# Altium integrated library Micron Memory Mobile LPDRAM.IntLib: 146 symbols (part 40 of 41)
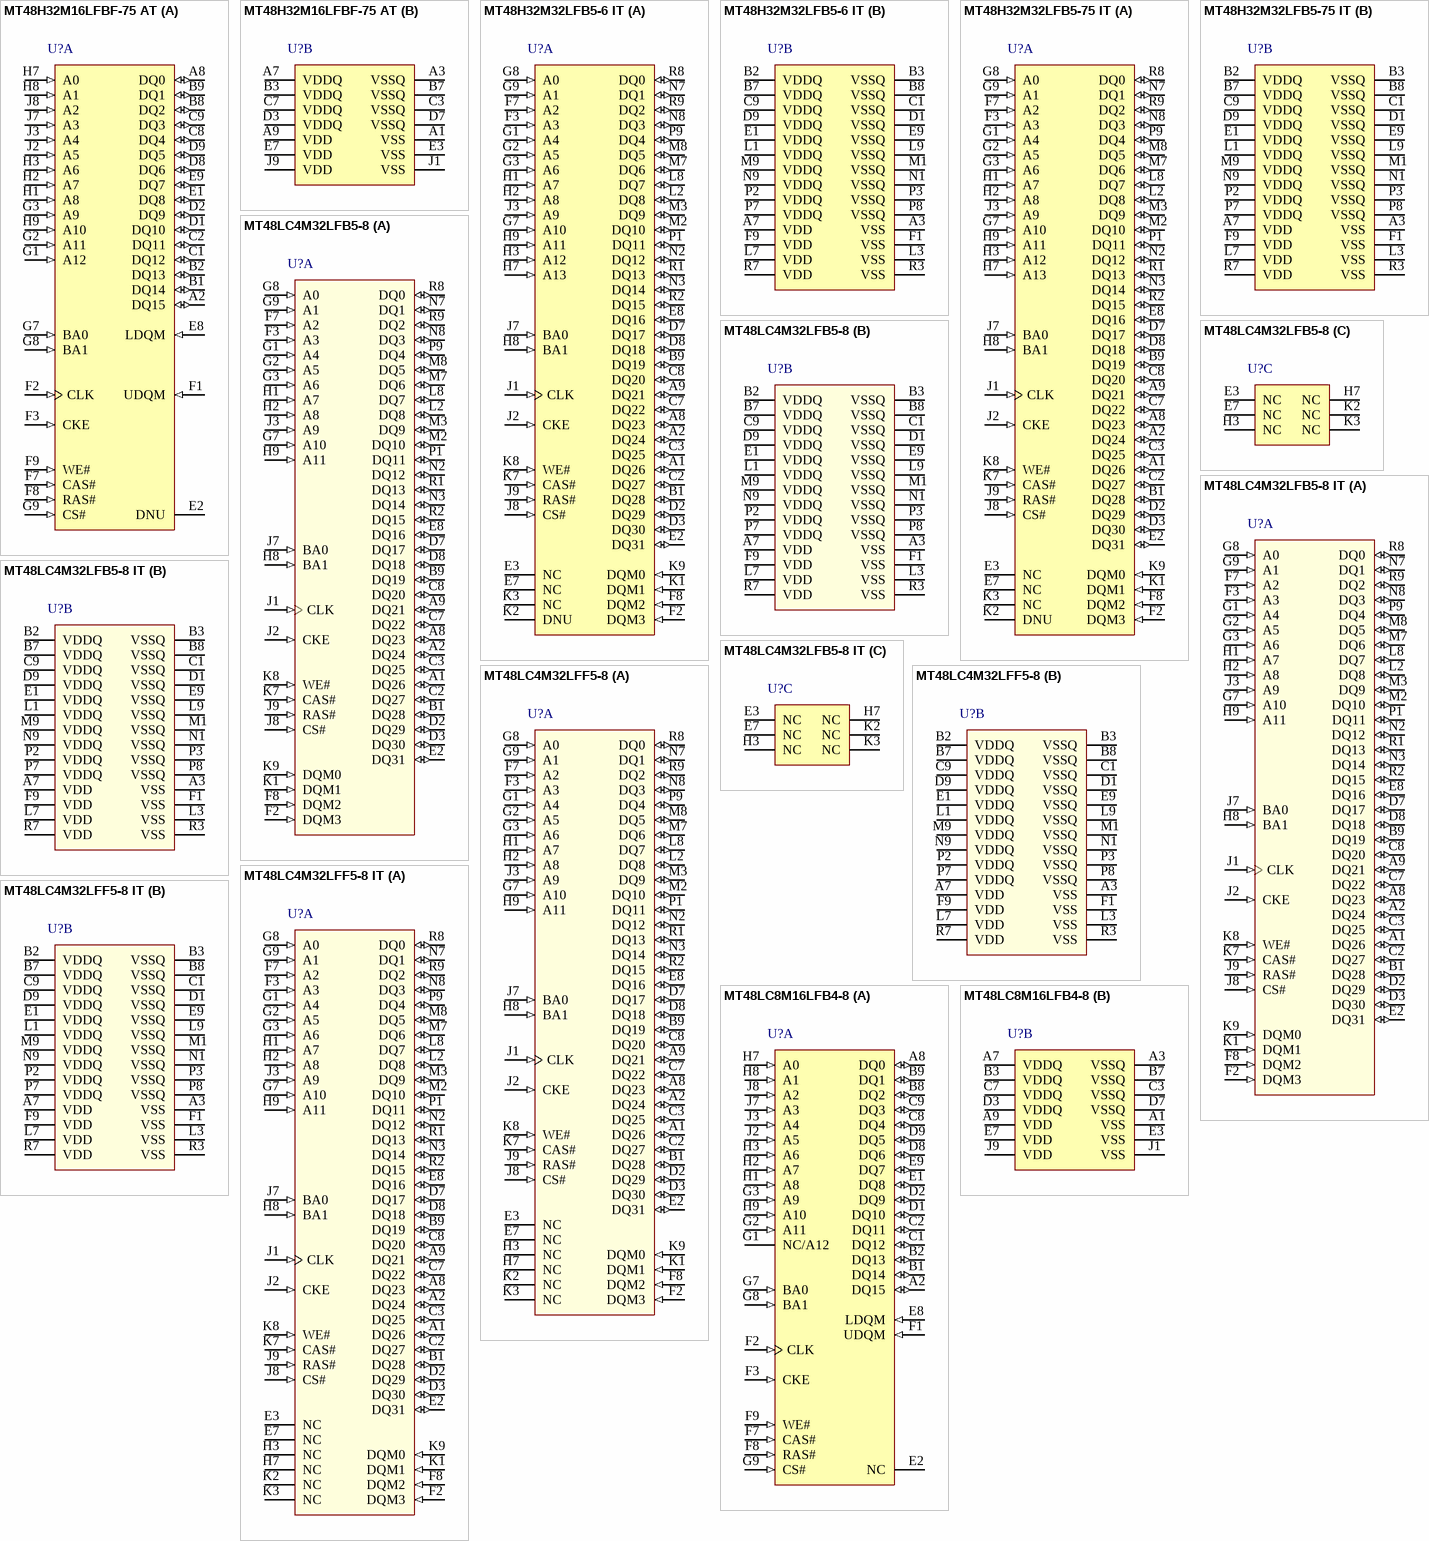
[diagram p63: symbols MT48H32M16LFBF-75 AT to MT48LC8M16LFB4-8]

## MT48LC4M32LFF5-8
designator U?
128Mb Mobile LPSDR SDRAM, 4Mb x 32, 8ns, 3.3V, 0 to 70 degC, 90-Ball VFBGA; Manufacturer: Micron; PartNumber: MT48LC4M32LFF5-8; Clock Rate: 125 MHz; Op. Temp.: 0C to +70C; DatasheetVersion: Rev. M; PackageVersion: Rev.G; PackageReference: MICT-F5-90; PackageDescription: 90-Ball Very Thin Profile Fine-Pitch Ball Grid Array, 13 x 8 mm, Pitch 0.8 mm; Cycle Time: 8ns; Data Rate: Mobile LPSDR; Density: 128Mb; Depth: 4Mb; Package: VFBGA; Part Status: Contact Factory; Pin Count: 90-ball; RoHS: 5/6; Technology: Mobile LPSDR; Voltage: 3.3V; Width: x32; Mounting Technology: Surface Mount; ComponentLink1Description: Manufacturer URL; ComponentLink1URL: http://www.micron.com/; ComponentLink2Description: Datasheet; ComponentLink2URL: http://www.micron.com/~/media/Documents/Products/Data%20Sheet/DRAM/128Mbx16x32Mobile.pdf; ComponentLink3Description: Package Specification; ComponentLink3URL: http://www.micron.com/~/media/Documents/Products/Data%20Sheet/DRAM/128Mbx16x32Mobile.pdf
footprint MICT-F5-90 (BGA, 90-Balls, Body 13x8mm, Pitch 0.8mm)
part A pins: A1 DQ26 (io) "Data input/output: Data bus.", A2 DQ24 (io) "Data input/output: Data bus.", A8 DQ23 (io) "Data input/output: Data bus.", A9 DQ21 (io) "Data input/output: Data bus.", B1 DQ28 (io) "Data input/output: Data bus.", B9 DQ19 (io) "Data input/output: Data bus.", C2 DQ27 (io) "Data input/output: Data bus.", C3 DQ25 (io) "Data input/output: Data bus.", C7 DQ22 (io) "Data input/output: Data bus.", C8 DQ20 (io) "Data input/output: Data bus.", D2 DQ29 (io) "Data input/output: Data bus.", D3 DQ30 (io) "Data input/output: Data bus.", D7 DQ17 (io) "Data input/output: Data bus.", D8 DQ18 (io) "Data input/output: Data bus.", E2 DQ31 (io) "Data input/output: Data bus.", E3 NC "No connect: These pins should be left unconnected. H3 is a no connect for this part, but may be used as A12 in future designs.", E7 NC "No connect: These pins should be left unconnected. H3 is a no connect for this part, but may be used as A12 in future designs.", E8 DQ16 (io) "Data input/output: Data bus.", F2 DQM3 (in) "Input/Output mask: DQM is sampled HIGH and is an input mask signal for write accesses and an output enable signal for read accesses. Input data is masked during a WRITE cycle. The output buffers are placed in a High-Z state (See Datasheet)", F3 A3 (in) "Address inputs: A0-A11 are sampled during the ACTIVE command (rowaddress A0-A11) and READ/WRITE command (column-address A0-A7; with A10 defining auto precharge) to select one location out of the memory array in the (See Datasheet)", F7 A2 (in) "Address inputs: A0-A11 are sampled during the ACTIVE command (rowaddress A0-A11) and READ/WRITE command (column-address A0-A7; with A10 defining auto precharge) to select one location out of the memory array in the (See Datasheet)", F8 DQM2 (in) "Input/Output mask: DQM is sampled HIGH and is an input mask signal for write accesses and an output enable signal for read accesses. Input data is masked during a WRITE cycle. The output buffers are placed in a High-Z state (See Datasheet)", G1 A4 (in) "Address inputs: A0-A11 are sampled during the ACTIVE command (rowaddress A0-A11) and READ/WRITE command (column-address A0-A7; with A10 defining auto precharge) to select one location out of the memory array in the (See Datasheet)", G2 A5 (in) "Address inputs: A0-A11 are sampled during the ACTIVE command (rowaddress A0-A11) and READ/WRITE command (column-address A0-A7; with A10 defining auto precharge) to select one location out of the memory array in the (See Datasheet)", G3 A6 (in) "Address inputs: A0-A11 are sampled during the ACTIVE command (rowaddress A0-A11) and READ/WRITE command (column-address A0-A7; with A10 defining auto precharge) to select one location out of the memory array in the (See Datasheet)", G7 A10 (in) "Address inputs: A0-A11 are sampled during the ACTIVE command (rowaddress A0-A11) and READ/WRITE command (column-address A0-A7; with A10 defining auto precharge) to select one location out of the memory array in the (See Datasheet)", G8 A0 (in) "Address inputs: A0-A11 are sampled during the ACTIVE command (rowaddress A0-A11) and READ/WRITE command (column-address A0-A7; with A10 defining auto precharge) to select one location out of the memory array in the (See Datasheet)", G9 A1 (in) "Address inputs: A0-A11 are sampled during the ACTIVE command (rowaddress A0-A11) and READ/WRITE command (column-address A0-A7; with A10 defining auto precharge) to select one location out of the memory array in the (See Datasheet)", H1 A7 (in) "Address inputs: A0-A11 are sampled during the ACTIVE command (rowaddress A0-A11) and READ/WRITE command (column-address A0-A7; with A10 defining auto precharge) to select one location out of the memory array in the (See Datasheet)", H2 A8 (in) "Address inputs: A0-A11 are sampled during the ACTIVE command (rowaddress A0-A11) and READ/WRITE command (column-address A0-A7; with A10 defining auto precharge) to select one location out of the memory array in the (See Datasheet)", H3 NC "No connect: These pins should be left unconnected. H3 is a no connect for this part, but may be used as A12 in future designs.", H7 NC "No connect: These pins should be left unconnected. H3 is a no connect for this part, but may be used as A12 in future designs.", H8 BA1 (in) "Bank address input(s): BA0 and BA1 define to which bank the ACTIVE, READ, WRITE, or PRECHARGE command is being applied. These pins also provide the op-code during a LOAD MODE REGISTER command.", H9 A11 (in) "Address inputs: A0-A11 are sampled during the ACTIVE command (rowaddress A0-A11) and READ/WRITE command (column-address A0-A7; with A10 defining auto precharge) to select one location out of the memory array in the (See Datasheet)", J1 CLK (in) "Clock: CLK is driven by the system clock. All SDRAM input signals are sampled on the positive edge of CLK. CLK also increments the internal burst counter and controls the output registers.", J2 CKE (in) "Clock enable: CKE activates (HIGH) and deactivates (LOW) the CLK signal. Deactivating the clock provides precharge power-down and SELF REFRESH operation (all banks idle), active power-down (row active in any bank), or CLOCK (See Datasheet)", J3 A9 (in) "Address inputs: A0-A11 are sampled during the ACTIVE command (rowaddress A0-A11) and READ/WRITE command (column-address A0-A7; with A10 defining auto precharge) to select one location out of the memory array in the (See Datasheet)", J7 BA0 (in) "Bank address input(s): BA0 and BA1 define to which bank the ACTIVE, READ, WRITE, or PRECHARGE command is being applied. These pins also provide the op-code during a LOAD MODE REGISTER command.", J8 CS# (in) "Chip select: CS# enables (registered LOW) and disables (registered HIGH) the command decoder. All commands are masked when CS# is registered HIGH, but READ/WRITE bursts already in progress will continue and DQM will retain (See Datasheet)", J9 RAS# (in) "Command inputs: RAS#, CAS#, and WE# (along with CS#) define the command being entered.", K1 DQM1 (in) "Input/Output mask: DQM is sampled HIGH and is an input mask signal for write accesses and an output enable signal for read accesses. Input data is masked during a WRITE cycle. The output buffers are placed in a High-Z state (See Datasheet)", K2 NC "No connect: These pins should be left unconnected. H3 is a no connect for this part, but may be used as A12 in future designs.", K3 NC "No connect: These pins should be left unconnected. H3 is a no connect for this part, but may be used as A12 in future designs.", K7 CAS# (in) "Command inputs: RAS#, CAS#, and WE# (along with CS#) define the command being entered.", K8 WE# (in) "Command inputs: RAS#, CAS#, and WE# (along with CS#) define the command being entered.", K9 DQM0 (in) "Input/Output mask: DQM is sampled HIGH and is an input mask signal for write accesses and an output enable signal for read accesses. Input data is masked during a WRITE cycle. The output buffers are placed in a High-Z state (See Datasheet)", L2 DQ8 (io) "Data input/output: Data bus.", L8 DQ7 (io) "Data input/output: Data bus.", M2 DQ10 (io) "Data input/output: Data bus.", M3 DQ9 (io) "Data input/output: Data bus.", M7 DQ6 (io) "Data input/output: Data bus.", M8 DQ5 (io) "Data input/output: Data bus.", N2 DQ12 (io) "Data input/output: Data bus.", N3 DQ14 (io) "Data input/output: Data bus.", N7 DQ1 (io) "Data input/output: Data bus.", N8 DQ3 (io) "Data input/output: Data bus.", P1 DQ11 (io) "Data input/output: Data bus.", P9 DQ4 (io) "Data input/output: Data bus.", R1 DQ13 (io) "Data input/output: Data bus.", R2 DQ15 (io) "Data input/output: Data bus.", R8 DQ0 (io) "Data input/output: Data bus.", R9 DQ2 (io) "Data input/output: Data bus."
part B pins: A3 VSS (power) "Ground.", A7 VDD (power) "Power supply: Voltage dependant on option.", B2 VDDQ (power) "DQ power: Isolated DQ power on the die to improve noise immunity.", B3 VSSQ (power) "DQ ground: Isolated DQ power on the die to improve noise immunity.", B7 VDDQ (power) "DQ power: Isolated DQ power on the die to improve noise immunity.", B8 VSSQ (power) "DQ ground: Isolated DQ power on the die to improve noise immunity.", C1 VSSQ (power) "DQ ground: Isolated DQ power on the die to improve noise immunity.", C9 VDDQ (power) "DQ power: Isolated DQ power on the die to improve noise immunity.", D1 VSSQ (power) "DQ ground: Isolated DQ power on the die to improve noise immunity.", D9 VDDQ (power) "DQ power: Isolated DQ power on the die to improve noise immunity.", E1 VDDQ (power) "DQ power: Isolated DQ power on the die to improve noise immunity.", E9 VSSQ (power) "DQ ground: Isolated DQ power on the die to improve noise immunity.", F1 VSS (power) "Ground.", F9 VDD (power) "Power supply: Voltage dependant on option.", L1 VDDQ (power) "DQ power: Isolated DQ power on the die to improve noise immunity.", L3 VSS (power) "Ground.", L7 VDD (power) "Power supply: Voltage dependant on option.", L9 VSSQ (power) "DQ ground: Isolated DQ power on the die to improve noise immunity.", M1 VSSQ (power) "DQ ground: Isolated DQ power on the die to improve noise immunity.", M9 VDDQ (power) "DQ power: Isolated DQ power on the die to improve noise immunity.", N1 VSSQ (power) "DQ ground: Isolated DQ power on the die to improve noise immunity.", N9 VDDQ (power) "DQ power: Isolated DQ power on the die to improve noise immunity.", P2 VDDQ (power) "DQ power: Isolated DQ power on the die to improve noise immunity.", P3 VSSQ (power) "DQ ground: Isolated DQ power on the die to improve noise immunity.", P7 VDDQ (power) "DQ power: Isolated DQ power on the die to improve noise immunity.", P8 VSSQ (power) "DQ ground: Isolated DQ power on the die to improve noise immunity.", R3 VSS (power) "Ground.", R7 VDD (power) "Power supply: Voltage dependant on option."

## MT48LC4M32LFF5-8 IT
designator U?
128Mb Mobile LPSDR SDRAM, 4Mb x 32, 8ns, 3.3V, -40 to 85 degC, 90-Ball VFBGA; Manufacturer: Micron; PartNumber: MT48LC4M32LFF5-8 IT; Clock Rate: 125 MHz; Op. Temp.: -40C to +85C; PackageVersion: Rev.G; PackageReference: MICT-F5-90; PackageDescription: 90-Ball Very Thin Profile Fine-Pitch Ball Grid Array, 13 x 8 mm, Pitch 0.8 mm; Cycle Time: 8ns; Density: 128Mb; Depth: 4Mb; Package: VFBGA; Part Status: Contact Factory; Pin Count: 90-ball; RoHS: 5/6; Technology: Mobile LPSDR; Voltage: 3.3V; Width: x32; Mounting Technology: Surface Mount; ComponentLink1Description: Manufacturer URL; ComponentLink1URL: http://www.micron.com/; ComponentLink2Description: Package Specification; ComponentLink2URL: http://www.micron.com/~/media/Documents/Products/Data%20Sheet/DRAM/128Mbx16x32Mobile.pdf
footprint MICT-F5-90 (BGA, 90-Balls, Body 13x8mm, Pitch 0.8mm)
part A pins: A1 DQ26 (io) "Data input/output: Data bus.", A2 DQ24 (io) "Data input/output: Data bus.", A8 DQ23 (io) "Data input/output: Data bus.", A9 DQ21 (io) "Data input/output: Data bus.", B1 DQ28 (io) "Data input/output: Data bus.", B9 DQ19 (io) "Data input/output: Data bus.", C2 DQ27 (io) "Data input/output: Data bus.", C3 DQ25 (io) "Data input/output: Data bus.", C7 DQ22 (io) "Data input/output: Data bus.", C8 DQ20 (io) "Data input/output: Data bus.", D2 DQ29 (io) "Data input/output: Data bus.", D3 DQ30 (io) "Data input/output: Data bus.", D7 DQ17 (io) "Data input/output: Data bus.", D8 DQ18 (io) "Data input/output: Data bus.", E2 DQ31 (io) "Data input/output: Data bus.", E3 NC "No connect: These pins should be left unconnected. H3 is a no connect for this part, but may be used as A12 in future designs.", E7 NC "No connect: These pins should be left unconnected. H3 is a no connect for this part, but may be used as A12 in future designs.", E8 DQ16 (io) "Data input/output: Data bus.", F2 DQM3 (in) "Input/Output mask: DQM is sampled HIGH and is an input mask signal for write accesses and an output enable signal for read accesses. Input data is masked during a WRITE cycle. The output buffers are placed in a High-Z state (See Datasheet)", F3 A3 (in) "Address inputs: A0-A11 are sampled during the ACTIVE command (rowaddress A0-A11) and READ/WRITE command (column-address A0-A7; with A10 defining auto precharge) to select one location out of the memory array in the (See Datasheet)", F7 A2 (in) "Address inputs: A0-A11 are sampled during the ACTIVE command (rowaddress A0-A11) and READ/WRITE command (column-address A0-A7; with A10 defining auto precharge) to select one location out of the memory array in the (See Datasheet)", F8 DQM2 (in) "Input/Output mask: DQM is sampled HIGH and is an input mask signal for write accesses and an output enable signal for read accesses. Input data is masked during a WRITE cycle. The output buffers are placed in a High-Z state (See Datasheet)", G1 A4 (in) "Address inputs: A0-A11 are sampled during the ACTIVE command (rowaddress A0-A11) and READ/WRITE command (column-address A0-A7; with A10 defining auto precharge) to select one location out of the memory array in the (See Datasheet)", G2 A5 (in) "Address inputs: A0-A11 are sampled during the ACTIVE command (rowaddress A0-A11) and READ/WRITE command (column-address A0-A7; with A10 defining auto precharge) to select one location out of the memory array in the (See Datasheet)", G3 A6 (in) "Address inputs: A0-A11 are sampled during the ACTIVE command (rowaddress A0-A11) and READ/WRITE command (column-address A0-A7; with A10 defining auto precharge) to select one location out of the memory array in the (See Datasheet)", G7 A10 (in) "Address inputs: A0-A11 are sampled during the ACTIVE command (rowaddress A0-A11) and READ/WRITE command (column-address A0-A7; with A10 defining auto precharge) to select one location out of the memory array in the (See Datasheet)", G8 A0 (in) "Address inputs: A0-A11 are sampled during the ACTIVE command (rowaddress A0-A11) and READ/WRITE command (column-address A0-A7; with A10 defining auto precharge) to select one location out of the memory array in the (See Datasheet)", G9 A1 (in) "Address inputs: A0-A11 are sampled during the ACTIVE command (rowaddress A0-A11) and READ/WRITE command (column-address A0-A7; with A10 defining auto precharge) to select one location out of the memory array in the (See Datasheet)", H1 A7 (in) "Address inputs: A0-A11 are sampled during the ACTIVE command (rowaddress A0-A11) and READ/WRITE command (column-address A0-A7; with A10 defining auto precharge) to select one location out of the memory array in the (See Datasheet)", H2 A8 (in) "Address inputs: A0-A11 are sampled during the ACTIVE command (rowaddress A0-A11) and READ/WRITE command (column-address A0-A7; with A10 defining auto precharge) to select one location out of the memory array in the (See Datasheet)", H3 NC "No connect: These pins should be left unconnected. H3 is a no connect for this part, but may be used as A12 in future designs.", H7 NC "No connect: These pins should be left unconnected. H3 is a no connect for this part, but may be used as A12 in future designs.", H8 BA1 (in) "Bank address input(s): BA0 and BA1 define to which bank the ACTIVE, READ, WRITE, or PRECHARGE command is being applied. These pins also provide the op-code during a LOAD MODE REGISTER command.", H9 A11 (in) "Address inputs: A0-A11 are sampled during the ACTIVE command (rowaddress A0-A11) and READ/WRITE command (column-address A0-A7; with A10 defining auto precharge) to select one location out of the memory array in the (See Datasheet)", J1 CLK (in) "Clock: CLK is driven by the system clock. All SDRAM input signals are sampled on the positive edge of CLK. CLK also increments the internal burst counter and controls the output registers.", J2 CKE (in) "Clock enable: CKE activates (HIGH) and deactivates (LOW) the CLK signal. Deactivating the clock provides precharge power-down and SELF REFRESH operation (all banks idle), active power-down (row active in any bank), or CLOCK (See Datasheet)", J3 A9 (in) "Address inputs: A0-A11 are sampled during the ACTIVE command (rowaddress A0-A11) and READ/WRITE command (column-address A0-A7; with A10 defining auto precharge) to select one location out of the memory array in the (See Datasheet)", J7 BA0 (in) "Bank address input(s): BA0 and BA1 define to which bank the ACTIVE, READ, WRITE, or PRECHARGE command is being applied. These pins also provide the op-code during a LOAD MODE REGISTER command.", J8 CS# (in) "Chip select: CS# enables (registered LOW) and disables (registered HIGH) the command decoder. All commands are masked when CS# is registered HIGH, but READ/WRITE bursts already in progress will continue and DQM will retain (See Datasheet)", J9 RAS# (in) "Command inputs: RAS#, CAS#, and WE# (along with CS#) define the command being entered.", K1 DQM1 (in) "Input/Output mask: DQM is sampled HIGH and is an input mask signal for write accesses and an output enable signal for read accesses. Input data is masked during a WRITE cycle. The output buffers are placed in a High-Z state (See Datasheet)", K2 NC "No connect: These pins should be left unconnected. H3 is a no connect for this part, but may be used as A12 in future designs.", K3 NC "No connect: These pins should be left unconnected. H3 is a no connect for this part, but may be used as A12 in future designs.", K7 CAS# (in) "Command inputs: RAS#, CAS#, and WE# (along with CS#) define the command being entered.", K8 WE# (in) "Command inputs: RAS#, CAS#, and WE# (along with CS#) define the command being entered.", K9 DQM0 (in) "Input/Output mask: DQM is sampled HIGH and is an input mask signal for write accesses and an output enable signal for read accesses. Input data is masked during a WRITE cycle. The output buffers are placed in a High-Z state (See Datasheet)", L2 DQ8 (io) "Data input/output: Data bus.", L8 DQ7 (io) "Data input/output: Data bus.", M2 DQ10 (io) "Data input/output: Data bus.", M3 DQ9 (io) "Data input/output: Data bus.", M7 DQ6 (io) "Data input/output: Data bus.", M8 DQ5 (io) "Data input/output: Data bus.", N2 DQ12 (io) "Data input/output: Data bus.", N3 DQ14 (io) "Data input/output: Data bus.", N7 DQ1 (io) "Data input/output: Data bus.", N8 DQ3 (io) "Data input/output: Data bus.", P1 DQ11 (io) "Data input/output: Data bus.", P9 DQ4 (io) "Data input/output: Data bus.", R1 DQ13 (io) "Data input/output: Data bus.", R2 DQ15 (io) "Data input/output: Data bus.", R8 DQ0 (io) "Data input/output: Data bus.", R9 DQ2 (io) "Data input/output: Data bus."
part B pins: A3 VSS (power) "Ground.", A7 VDD (power) "Power supply: Voltage dependant on option.", B2 VDDQ (power) "DQ power: Isolated DQ power on the die to improve noise immunity.", B3 VSSQ (power) "DQ ground: Isolated DQ power on the die to improve noise immunity.", B7 VDDQ (power) "DQ power: Isolated DQ power on the die to improve noise immunity.", B8 VSSQ (power) "DQ ground: Isolated DQ power on the die to improve noise immunity.", C1 VSSQ (power) "DQ ground: Isolated DQ power on the die to improve noise immunity.", C9 VDDQ (power) "DQ power: Isolated DQ power on the die to improve noise immunity.", D1 VSSQ (power) "DQ ground: Isolated DQ power on the die to improve noise immunity.", D9 VDDQ (power) "DQ power: Isolated DQ power on the die to improve noise immunity.", E1 VDDQ (power) "DQ power: Isolated DQ power on the die to improve noise immunity.", E9 VSSQ (power) "DQ ground: Isolated DQ power on the die to improve noise immunity.", F1 VSS (power) "Ground.", F9 VDD (power) "Power supply: Voltage dependant on option.", L1 VDDQ (power) "DQ power: Isolated DQ power on the die to improve noise immunity.", L3 VSS (power) "Ground.", L7 VDD (power) "Power supply: Voltage dependant on option.", L9 VSSQ (power) "DQ ground: Isolated DQ power on the die to improve noise immunity.", M1 VSSQ (power) "DQ ground: Isolated DQ power on the die to improve noise immunity.", M9 VDDQ (power) "DQ power: Isolated DQ power on the die to improve noise immunity.", N1 VSSQ (power) "DQ ground: Isolated DQ power on the die to improve noise immunity.", N9 VDDQ (power) "DQ power: Isolated DQ power on the die to improve noise immunity.", P2 VDDQ (power) "DQ power: Isolated DQ power on the die to improve noise immunity.", P3 VSSQ (power) "DQ ground: Isolated DQ power on the die to improve noise immunity.", P7 VDDQ (power) "DQ power: Isolated DQ power on the die to improve noise immunity.", P8 VSSQ (power) "DQ ground: Isolated DQ power on the die to improve noise immunity.", R3 VSS (power) "Ground.", R7 VDD (power) "Power supply: Voltage dependant on option."

## MT48LC8M16LFB4-8
designator U?
128Mb Mobile LPSDR SDRAM, 8Mb x 16, 8ns, 3.3V, 0 to 70 degC, 54-Ball VFBGA, Pb-Free; Manufacturer: Micron; PartNumber: MT48LC8M16LFB4-8; Clock Rate: 125 MHz; Op. Temp.: 0C to +70C; DatasheetVersion: Rev. M; PackageVersion: Rev.Q; PackageReference: MICT-B4-54; PackageDescription: 54-Ball Very Thin Profile Fine-Pitch Ball Grid Array, 8x 8 mm, Pitch 0.8 mm; Cycle Time: 8ns; Data Rate: Mobile LPSDR; Density: 128Mb; Depth: 8Mb; Package: VFBGA; Part Status: Contact Factory; Pin Count: 54-ball; RoHS: Yes; Technology: Mobile LPSDR; Voltage: 3.3V; Width: x16; Mounting Technology: Surface Mount; ComponentLink1Description: Manufacturer URL; ComponentLink1URL: http://www.micron.com/; ComponentLink2Description: Datasheet; ComponentLink2URL: http://www.micron.com/~/media/Documents/Products/Data%20Sheet/DRAM/128Mbx16x32Mobile.pdf; ComponentLink3Description: Package Specification; ComponentLink3URL: http://www.micron.com/~/media/Documents/Products/Data%20Sheet/DRAM/128Mbx16x32Mobile.pdf
footprint MICT-B4-54 (BGA, 54-Balls, Body 8x8mm, Pitch 0.8mm)
part A pins: A2 DQ15 (io) "Data input/output: Data bus.", A8 DQ0 (io) "Data input/output: Data bus.", B1 DQ14 (io) "Data input/output: Data bus.", B2 DQ13 (io) "Data input/output: Data bus.", B8 DQ2 (io) "Data input/output: Data bus.", B9 DQ1 (io) "Data input/output: Data bus.", C1 DQ12 (io) "Data input/output: Data bus.", C2 DQ11 (io) "Data input/output: Data bus.", C8 DQ4 (io) "Data input/output: Data bus.", C9 DQ3 (io) "Data input/output: Data bus.", D1 DQ10 (io) "Data input/output: Data bus.", D2 DQ9 (io) "Data input/output: Data bus.", D8 DQ6 (io) "Data input/output: Data bus.", D9 DQ5 (io) "Data input/output: Data bus.", E1 DQ8 (io) "Data input/output: Data bus.", E2 NC "No connect: These pins should be left unconnected. G1 is a no connect for this part but may be used as A12 in future designs.", E8 LDQM (in) "Input/Output mask: DQM is sampled HIGH and is an input mask signal for write accesses and an output enable signal for read accesses. Input data is masked during a WRITE cycle. The output buffers are placed in a High-Z state (See Datasheet)", E9 DQ7 (io) "Data input/output: Data bus.", F1 UDQM (in) "Input/Output mask: DQM is sampled HIGH and is an input mask signal for write accesses and an output enable signal for read accesses. Input data is masked during a WRITE cycle. The output buffers are placed in a High-Z state (See Datasheet)", F2 CLK (in) "Clock: CLK is driven by the system clock. All SDRAM input signals are sampled on the positive edge of CLK. CLK also increments the internal burst counter and controls the output registers.", F3 CKE (in) "Clock enable: CKE activates (HIGH) and deactivates (LOW) the CLK signal. Deactivating the clock provides precharge power-down and SELF REFRESH operation (all banks idle), active power-down (row active in any bank), or CLOCK (See Datasheet)", F7 CAS# (in) "Command inputs: CAS#, RAS#, and WE# (along with CS#) define the command being entered.", F8 RAS# (in) "Command inputs: CAS#, RAS#, and WE# (along with CS#) define the command being entered.", F9 WE# (in) "Command inputs: CAS#, RAS#, and WE# (along with CS#) define the command being entered.", G1 NC/A12 "No connect: These pins should be left unconnected. G1 is a no connect for this part but may be used as A12 in future designs.Address inputs: A0-A11 are sampled during the ACTIVE command (rowaddress A0-A11) and READ/WRITE (See Datasheet)", G2 A11 (in) "Address inputs: A0-A11 are sampled during the ACTIVE command (rowaddress A0-A11) and READ/WRITE command (column-address A0-A8; with A10 defining auto precharge) to select one location out of the memory array in the (See Datasheet)", G3 A9 (in) "Address inputs: A0-A11 are sampled during the ACTIVE command (rowaddress A0-A11) and READ/WRITE command (column-address A0-A8; with A10 defining auto precharge) to select one location out of the memory array in the (See Datasheet)", G7 BA0 (in) "Bank address input(s): BA0 and BA1 define to which bank the ACTIVE, READ, WRITE, or PRECHARGE command is being applied. These pins also provide the op-code during a LOAD MODE REGISTER command.", G8 BA1 (in) "Bank address input(s): BA0 and BA1 define to which bank the ACTIVE, READ, WRITE, or PRECHARGE command is being applied. These pins also provide the op-code during a LOAD MODE REGISTER command.", G9 CS# (in) "Chip select: CS# enables (registered LOW) and disables (registered HIGH) the command decoder. All commands are masked when CS# is registered HIGH, but READ/WRITE bursts already in progress will continue and DQM will retain (See Datasheet)", H1 A8 (in) "Address inputs: A0-A11 are sampled during the ACTIVE command (rowaddress A0-A11) and READ/WRITE command (column-address A0-A8; with A10 defining auto precharge) to select one location out of the memory array in the (See Datasheet)", H2 A7 (in) "Address inputs: A0-A11 are sampled during the ACTIVE command (rowaddress A0-A11) and READ/WRITE command (column-address A0-A8; with A10 defining auto precharge) to select one location out of the memory array in the (See Datasheet)", H3 A6 (in) "Address inputs: A0-A11 are sampled during the ACTIVE command (rowaddress A0-A11) and READ/WRITE command (column-address A0-A8; with A10 defining auto precharge) to select one location out of the memory array in the (See Datasheet)", H7 A0 (in) "Address inputs: A0-A11 are sampled during the ACTIVE command (rowaddress A0-A11) and READ/WRITE command (column-address A0-A8; with A10 defining auto precharge) to select one location out of the memory array in the (See Datasheet)", H8 A1 (in) "Address inputs: A0-A11 are sampled during the ACTIVE command (rowaddress A0-A11) and READ/WRITE command (column-address A0-A8; with A10 defining auto precharge) to select one location out of the memory array in the (See Datasheet)", H9 A10 (in) "Address inputs: A0-A11 are sampled during the ACTIVE command (rowaddress A0-A11) and READ/WRITE command (column-address A0-A8; with A10 defining auto precharge) to select one location out of the memory array in the (See Datasheet)", J2 A5 (in) "Address inputs: A0-A11 are sampled during the ACTIVE command (rowaddress A0-A11) and READ/WRITE command (column-address A0-A8; with A10 defining auto precharge) to select one location out of the memory array in the (See Datasheet)", J3 A4 (in) "Address inputs: A0-A11 are sampled during the ACTIVE command (rowaddress A0-A11) and READ/WRITE command (column-address A0-A8; with A10 defining auto precharge) to select one location out of the memory array in the (See Datasheet)", J7 A3 (in) "Address inputs: A0-A11 are sampled during the ACTIVE command (rowaddress A0-A11) and READ/WRITE command (column-address A0-A8; with A10 defining auto precharge) to select one location out of the memory array in the (See Datasheet)", J8 A2 (in) "Address inputs: A0-A11 are sampled during the ACTIVE command (rowaddress A0-A11) and READ/WRITE command (column-address A0-A8; with A10 defining auto precharge) to select one location out of the memory array in the (See Datasheet)"
part B pins: A1 VSS (power) "Ground.", A3 VSSQ (power) "DQ ground: Isolated DQ power on the die to improve noise immunity.", A7 VDDQ (power) "DQ power: Isolated DQ power on the die to improve noise immunity.", A9 VDD (power) "Power supply: Voltage dependant on option.", B3 VDDQ (power) "DQ power: Isolated DQ power on the die to improve noise immunity.", B7 VSSQ (power) "DQ ground: Isolated DQ power on the die to improve noise immunity.", C3 VSSQ (power) "DQ ground: Isolated DQ power on the die to improve noise immunity.", C7 VDDQ (power) "DQ power: Isolated DQ power on the die to improve noise immunity.", D3 VDDQ (power) "DQ power: Isolated DQ power on the die to improve noise immunity.", D7 VSSQ (power) "DQ ground: Isolated DQ power on the die to improve noise immunity.", E3 VSS (power) "Ground.", E7 VDD (power) "Power supply: Voltage dependant on option.", J1 VSS (power) "Ground.", J9 VDD (power) "Power supply: Voltage dependant on option."

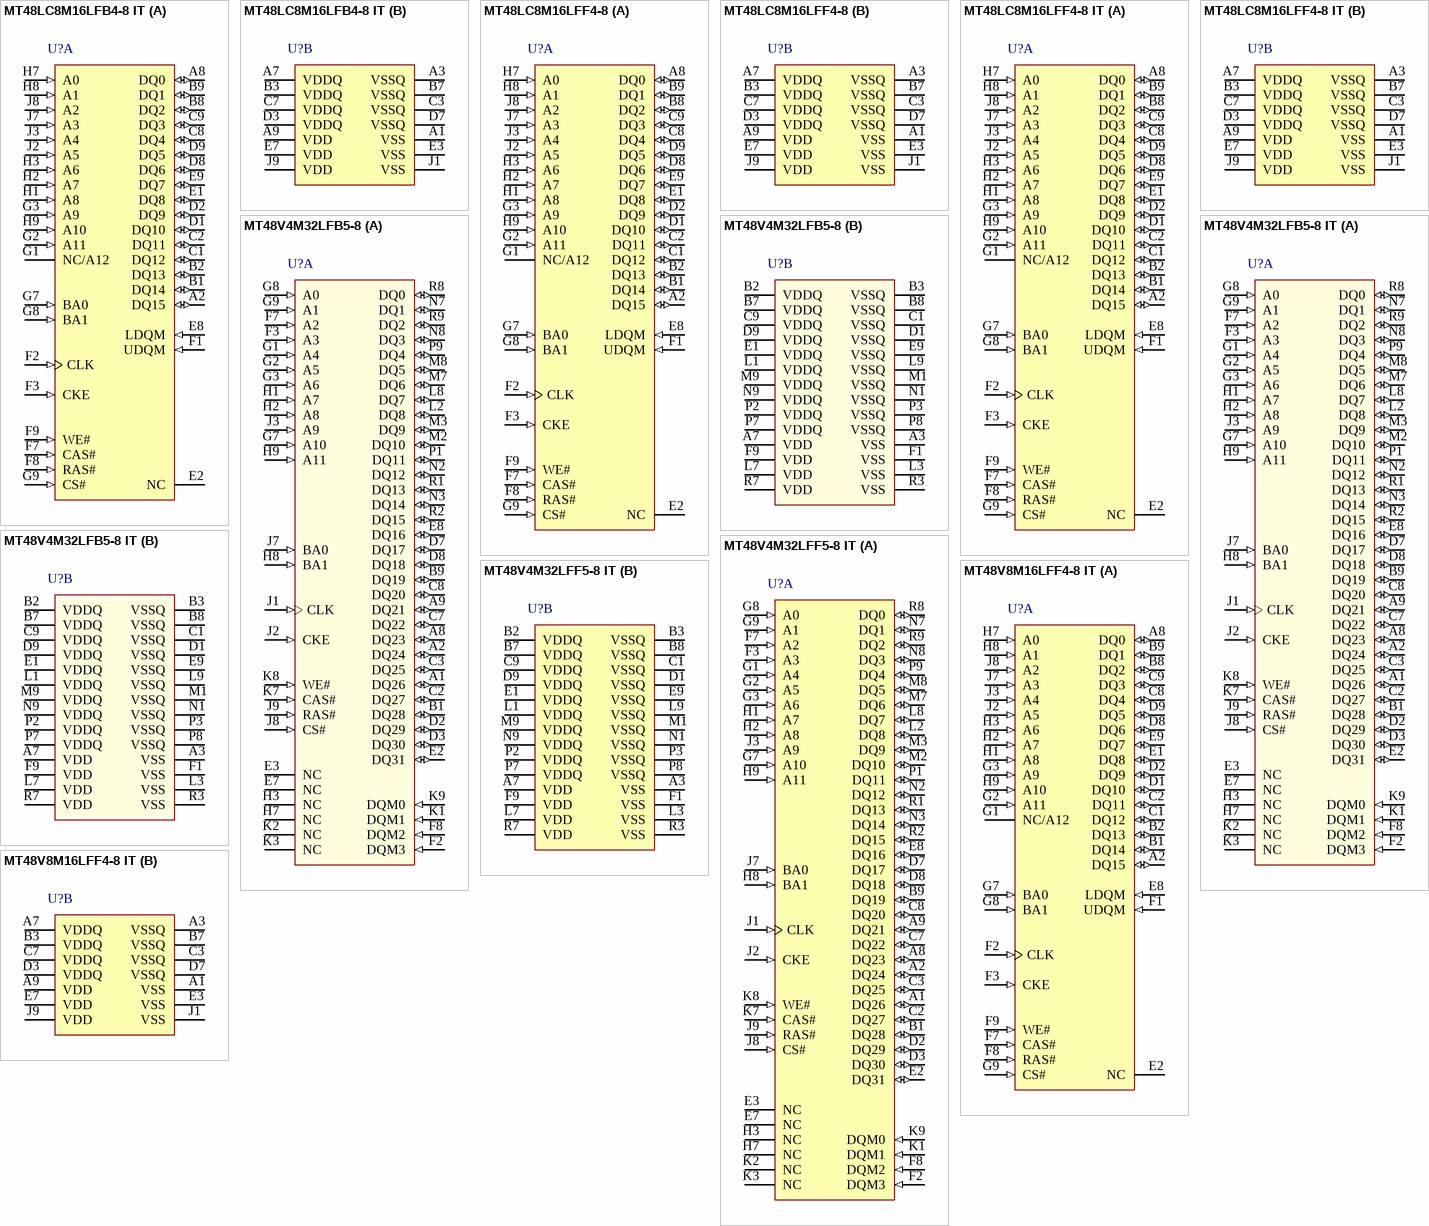
[diagram p24: symbols MT48LC8M16LFB4-8 IT to MT48V8M16LFF4-8 IT]

## MT48LC8M16LFB4-8 IT
designator U?
128Mb Mobile LPSDR SDRAM, 8Mb x 16, 8ns, 3.3V, -40 to 85 degC, 54-Ball VFBGA, Pb-Free; Manufacturer: Micron; PartNumber: MT48LC8M16LFB4-8 IT; Clock Rate: 125 MHz; Op. Temp.: -40C to +85C; DatasheetVersion: Rev. M; PackageVersion: Rev.Q; PackageReference: MICT-B4-54; PackageDescription: 54-Ball Very Thin Profile Fine-Pitch Ball Grid Array, 8x 8 mm, Pitch 0.8 mm; Cycle Time: 8ns; Data Rate: Mobile LPSDR; Density: 128Mb; Depth: 8Mb; Package: VFBGA; Part Status: Contact Factory; Pin Count: 54-ball; RoHS: Yes; Technology: Mobile LPSDR; Voltage: 3.3V; Width: x16; Mounting Technology: Surface Mount; ComponentLink1Description: Manufacturer URL; ComponentLink1URL: http://www.micron.com/; ComponentLink2Description: Datasheet; ComponentLink2URL: http://www.micron.com/~/media/Documents/Products/Data%20Sheet/DRAM/128Mbx16x32Mobile.pdf; ComponentLink3Description: Package Specification; ComponentLink3URL: http://www.micron.com/~/media/Documents/Products/Data%20Sheet/DRAM/128Mbx16x32Mobile.pdf
footprint MICT-B4-54 (BGA, 54-Balls, Body 8x8mm, Pitch 0.8mm)
part A pins: A2 DQ15 (io) "Data input/output: Data bus.", A8 DQ0 (io) "Data input/output: Data bus.", B1 DQ14 (io) "Data input/output: Data bus.", B2 DQ13 (io) "Data input/output: Data bus.", B8 DQ2 (io) "Data input/output: Data bus.", B9 DQ1 (io) "Data input/output: Data bus.", C1 DQ12 (io) "Data input/output: Data bus.", C2 DQ11 (io) "Data input/output: Data bus.", C8 DQ4 (io) "Data input/output: Data bus.", C9 DQ3 (io) "Data input/output: Data bus.", D1 DQ10 (io) "Data input/output: Data bus.", D2 DQ9 (io) "Data input/output: Data bus.", D8 DQ6 (io) "Data input/output: Data bus.", D9 DQ5 (io) "Data input/output: Data bus.", E1 DQ8 (io) "Data input/output: Data bus.", E2 NC "No connect: These pins should be left unconnected. G1 is a no connect for this part but may be used as A12 in future designs.", E8 LDQM (in) "Input/Output mask: DQM is sampled HIGH and is an input mask signal for write accesses and an output enable signal for read accesses. Input data is masked during a WRITE cycle. The output buffers are placed in a High-Z state (See Datasheet)", E9 DQ7 (io) "Data input/output: Data bus.", F1 UDQM (in) "Input/Output mask: DQM is sampled HIGH and is an input mask signal for write accesses and an output enable signal for read accesses. Input data is masked during a WRITE cycle. The output buffers are placed in a High-Z state (See Datasheet)", F2 CLK (in) "Clock: CLK is driven by the system clock. All SDRAM input signals are sampled on the positive edge of CLK. CLK also increments the internal burst counter and controls the output registers.", F3 CKE (in) "Clock enable: CKE activates (HIGH) and deactivates (LOW) the CLK signal. Deactivating the clock provides precharge power-down and SELF REFRESH operation (all banks idle), active power-down (row active in any bank), or CLOCK (See Datasheet)", F7 CAS# (in) "Command inputs: CAS#, RAS#, and WE# (along with CS#) define the command being entered.", F8 RAS# (in) "Command inputs: CAS#, RAS#, and WE# (along with CS#) define the command being entered.", F9 WE# (in) "Command inputs: CAS#, RAS#, and WE# (along with CS#) define the command being entered.", G1 NC/A12 "No connect: These pins should be left unconnected. G1 is a no connect for this part but may be used as A12 in future designs.Address inputs: A0-A11 are sampled during the ACTIVE command (rowaddress A0-A11) and READ/WRITE (See Datasheet)", G2 A11 (in) "Address inputs: A0-A11 are sampled during the ACTIVE command (rowaddress A0-A11) and READ/WRITE command (column-address A0-A8; with A10 defining auto precharge) to select one location out of the memory array in the (See Datasheet)", G3 A9 (in) "Address inputs: A0-A11 are sampled during the ACTIVE command (rowaddress A0-A11) and READ/WRITE command (column-address A0-A8; with A10 defining auto precharge) to select one location out of the memory array in the (See Datasheet)", G7 BA0 (in) "Bank address input(s): BA0 and BA1 define to which bank the ACTIVE, READ, WRITE, or PRECHARGE command is being applied. These pins also provide the op-code during a LOAD MODE REGISTER command.", G8 BA1 (in) "Bank address input(s): BA0 and BA1 define to which bank the ACTIVE, READ, WRITE, or PRECHARGE command is being applied. These pins also provide the op-code during a LOAD MODE REGISTER command.", G9 CS# (in) "Chip select: CS# enables (registered LOW) and disables (registered HIGH) the command decoder. All commands are masked when CS# is registered HIGH, but READ/WRITE bursts already in progress will continue and DQM will retain (See Datasheet)", H1 A8 (in) "Address inputs: A0-A11 are sampled during the ACTIVE command (rowaddress A0-A11) and READ/WRITE command (column-address A0-A8; with A10 defining auto precharge) to select one location out of the memory array in the (See Datasheet)", H2 A7 (in) "Address inputs: A0-A11 are sampled during the ACTIVE command (rowaddress A0-A11) and READ/WRITE command (column-address A0-A8; with A10 defining auto precharge) to select one location out of the memory array in the (See Datasheet)", H3 A6 (in) "Address inputs: A0-A11 are sampled during the ACTIVE command (rowaddress A0-A11) and READ/WRITE command (column-address A0-A8; with A10 defining auto precharge) to select one location out of the memory array in the (See Datasheet)", H7 A0 (in) "Address inputs: A0-A11 are sampled during the ACTIVE command (rowaddress A0-A11) and READ/WRITE command (column-address A0-A8; with A10 defining auto precharge) to select one location out of the memory array in the (See Datasheet)", H8 A1 (in) "Address inputs: A0-A11 are sampled during the ACTIVE command (rowaddress A0-A11) and READ/WRITE command (column-address A0-A8; with A10 defining auto precharge) to select one location out of the memory array in the (See Datasheet)", H9 A10 (in) "Address inputs: A0-A11 are sampled during the ACTIVE command (rowaddress A0-A11) and READ/WRITE command (column-address A0-A8; with A10 defining auto precharge) to select one location out of the memory array in the (See Datasheet)", J2 A5 (in) "Address inputs: A0-A11 are sampled during the ACTIVE command (rowaddress A0-A11) and READ/WRITE command (column-address A0-A8; with A10 defining auto precharge) to select one location out of the memory array in the (See Datasheet)", J3 A4 (in) "Address inputs: A0-A11 are sampled during the ACTIVE command (rowaddress A0-A11) and READ/WRITE command (column-address A0-A8; with A10 defining auto precharge) to select one location out of the memory array in the (See Datasheet)", J7 A3 (in) "Address inputs: A0-A11 are sampled during the ACTIVE command (rowaddress A0-A11) and READ/WRITE command (column-address A0-A8; with A10 defining auto precharge) to select one location out of the memory array in the (See Datasheet)", J8 A2 (in) "Address inputs: A0-A11 are sampled during the ACTIVE command (rowaddress A0-A11) and READ/WRITE command (column-address A0-A8; with A10 defining auto precharge) to select one location out of the memory array in the (See Datasheet)"
part B pins: A1 VSS (power) "Ground.", A3 VSSQ (power) "DQ ground: Isolated DQ power on the die to improve noise immunity.", A7 VDDQ (power) "DQ power: Isolated DQ power on the die to improve noise immunity.", A9 VDD (power) "Power supply: Voltage dependant on option.", B3 VDDQ (power) "DQ power: Isolated DQ power on the die to improve noise immunity.", B7 VSSQ (power) "DQ ground: Isolated DQ power on the die to improve noise immunity.", C3 VSSQ (power) "DQ ground: Isolated DQ power on the die to improve noise immunity.", C7 VDDQ (power) "DQ power: Isolated DQ power on the die to improve noise immunity.", D3 VDDQ (power) "DQ power: Isolated DQ power on the die to improve noise immunity.", D7 VSSQ (power) "DQ ground: Isolated DQ power on the die to improve noise immunity.", E3 VSS (power) "Ground.", E7 VDD (power) "Power supply: Voltage dependant on option.", J1 VSS (power) "Ground.", J9 VDD (power) "Power supply: Voltage dependant on option."

## MT48LC8M16LFF4-8
designator U?
128Mb Mobile LPSDR SDRAM, 8Mb x 16, 8ns, 3.3V, 0 to 70 degC, 54-Ball VFBGA; Manufacturer: Micron; PartNumber: MT48LC8M16LFF4-8; Clock Rate: 125 MHz; Op. Temp.: 0C to +70C; DatasheetVersion: Rev. M; PackageVersion: Rev.G; PackageReference: MICT-F4-54; PackageDescription: 54-Ball Very Thin Profile Fine-Pitch Ball Grid Array, 8 x 8 mm, Pitch 0.8 mm; Cycle Time: 8ns; Data Rate: Mobile LPSDR; Density: 128Mb; Depth: 8Mb; Package: VFBGA; Part Status: Contact Factory; Pin Count: 54-ball; RoHS: 5/6; Technology: Mobile LPSDR; Voltage: 3.3V; Width: x16; Mounting Technology: Surface Mount; ComponentLink1Description: Manufacturer URL; ComponentLink1URL: http://www.micron.com/; ComponentLink2Description: Datasheet; ComponentLink2URL: http://www.micron.com/~/media/Documents/Products/Data%20Sheet/DRAM/128Mbx16x32Mobile.pdf; ComponentLink3Description: Package Specification; ComponentLink3URL: http://www.micron.com/~/media/Documents/Products/Data%20Sheet/DRAM/256Mb_sdr.pdf
footprint MICT-F4-54 (BGA, 54-Balls, Body 8x8mm, Pitch 0.8mm)
part A pins: A2 DQ15 (io) "Data input/output: Data bus.", A8 DQ0 (io) "Data input/output: Data bus.", B1 DQ14 (io) "Data input/output: Data bus.", B2 DQ13 (io) "Data input/output: Data bus.", B8 DQ2 (io) "Data input/output: Data bus.", B9 DQ1 (io) "Data input/output: Data bus.", C1 DQ12 (io) "Data input/output: Data bus.", C2 DQ11 (io) "Data input/output: Data bus.", C8 DQ4 (io) "Data input/output: Data bus.", C9 DQ3 (io) "Data input/output: Data bus.", D1 DQ10 (io) "Data input/output: Data bus.", D2 DQ9 (io) "Data input/output: Data bus.", D8 DQ6 (io) "Data input/output: Data bus.", D9 DQ5 (io) "Data input/output: Data bus.", E1 DQ8 (io) "Data input/output: Data bus.", E2 NC "No connect: These pins should be left unconnected. G1 is a no connect for this part but may be used as A12 in future designs.", E8 LDQM (in) "Input/Output mask: DQM is sampled HIGH and is an input mask signal for write accesses and an output enable signal for read accesses. Input data is masked during a WRITE cycle. The output buffers are placed in a High-Z state (See Datasheet)", E9 DQ7 (io) "Data input/output: Data bus.", F1 UDQM (in) "Input/Output mask: DQM is sampled HIGH and is an input mask signal for write accesses and an output enable signal for read accesses. Input data is masked during a WRITE cycle. The output buffers are placed in a High-Z state (See Datasheet)", F2 CLK (in) "Clock: CLK is driven by the system clock. All SDRAM input signals are sampled on the positive edge of CLK. CLK also increments the internal burst counter and controls the output registers.", F3 CKE (in) "Clock enable: CKE activates (HIGH) and deactivates (LOW) the CLK signal. Deactivating the clock provides precharge power-down and SELF REFRESH operation (all banks idle), active power-down (row active in any bank), or CLOCK (See Datasheet)", F7 CAS# (in) "Command inputs: CAS#, RAS#, and WE# (along with CS#) define the command being entered.", F8 RAS# (in) "Command inputs: CAS#, RAS#, and WE# (along with CS#) define the command being entered.", F9 WE# (in) "Command inputs: CAS#, RAS#, and WE# (along with CS#) define the command being entered.", G1 NC/A12 "No connect: These pins should be left unconnected. G1 is a no connect for this part but may be used as A12 in future designs.", G2 A11 (in) "Address inputs: A0-A11 are sampled during the ACTIVE command (rowaddress A0-A11) and READ/WRITE command (column-address A0-A8; with A10 defining auto precharge) to select one location out of the memory array in the (See Datasheet)", G3 A9 (in) "Address inputs: A0-A11 are sampled during the ACTIVE command (rowaddress A0-A11) and READ/WRITE command (column-address A0-A8; with A10 defining auto precharge) to select one location out of the memory array in the (See Datasheet)", G7 BA0 (in) "Bank address input(s): BA0 and BA1 define to which bank the ACTIVE, READ, WRITE, or PRECHARGE command is being applied. These pins also provide the op-code during a LOAD MODE REGISTER command.", G8 BA1 (in) "Bank address input(s): BA0 and BA1 define to which bank the ACTIVE, READ, WRITE, or PRECHARGE command is being applied. These pins also provide the op-code during a LOAD MODE REGISTER command.", G9 CS# (in) "Chip select: CS# enables (registered LOW) and disables (registered HIGH) the command decoder. All commands are masked when CS# is registered HIGH, but READ/WRITE bursts already in progress will continue and DQM will retain (See Datasheet)", H1 A8 (in) "Address inputs: A0-A11 are sampled during the ACTIVE command (rowaddress A0-A11) and READ/WRITE command (column-address A0-A8; with A10 defining auto precharge) to select one location out of the memory array in the (See Datasheet)", H2 A7 (in) "Address inputs: A0-A11 are sampled during the ACTIVE command (rowaddress A0-A11) and READ/WRITE command (column-address A0-A8; with A10 defining auto precharge) to select one location out of the memory array in the (See Datasheet)", H3 A6 (in) "Address inputs: A0-A11 are sampled during the ACTIVE command (rowaddress A0-A11) and READ/WRITE command (column-address A0-A8; with A10 defining auto precharge) to select one location out of the memory array in the (See Datasheet)", H7 A0 (in) "Address inputs: A0-A11 are sampled during the ACTIVE command (rowaddress A0-A11) and READ/WRITE command (column-address A0-A8; with A10 defining auto precharge) to select one location out of the memory array in the (See Datasheet)", H8 A1 (in) "Address inputs: A0-A11 are sampled during the ACTIVE command (rowaddress A0-A11) and READ/WRITE command (column-address A0-A8; with A10 defining auto precharge) to select one location out of the memory array in the (See Datasheet)", H9 A10 (in) "Address inputs: A0-A11 are sampled during the ACTIVE command (rowaddress A0-A11) and READ/WRITE command (column-address A0-A8; with A10 defining auto precharge) to select one location out of the memory array in the (See Datasheet)", J2 A5 (in) "Address inputs: A0-A11 are sampled during the ACTIVE command (rowaddress A0-A11) and READ/WRITE command (column-address A0-A8; with A10 defining auto precharge) to select one location out of the memory array in the (See Datasheet)", J3 A4 (in) "Address inputs: A0-A11 are sampled during the ACTIVE command (rowaddress A0-A11) and READ/WRITE command (column-address A0-A8; with A10 defining auto precharge) to select one location out of the memory array in the (See Datasheet)", J7 A3 (in) "Address inputs: A0-A11 are sampled during the ACTIVE command (rowaddress A0-A11) and READ/WRITE command (column-address A0-A8; with A10 defining auto precharge) to select one location out of the memory array in the (See Datasheet)", J8 A2 (in) "Address inputs: A0-A11 are sampled during the ACTIVE command (rowaddress A0-A11) and READ/WRITE command (column-address A0-A8; with A10 defining auto precharge) to select one location out of the memory array in the (See Datasheet)"
part B pins: A1 VSS (power) "Ground.", A3 VSSQ (power) "DQ ground: Isolated DQ power on the die to improve noise immunity.", A7 VDDQ (power) "DQ power: Isolated DQ power on the die to improve noise immunity.", A9 VDD (power) "Power supply: Voltage dependant on option.", B3 VDDQ (power) "DQ power: Isolated DQ power on the die to improve noise immunity.", B7 VSSQ (power) "DQ ground: Isolated DQ power on the die to improve noise immunity.", C3 VSSQ (power) "DQ ground: Isolated DQ power on the die to improve noise immunity.", C7 VDDQ (power) "DQ power: Isolated DQ power on the die to improve noise immunity.", D3 VDDQ (power) "DQ power: Isolated DQ power on the die to improve noise immunity.", D7 VSSQ (power) "DQ ground: Isolated DQ power on the die to improve noise immunity.", E3 VSS (power) "Ground.", E7 VDD (power) "Power supply: Voltage dependant on option.", J1 VSS (power) "Ground.", J9 VDD (power) "Power supply: Voltage dependant on option."